# Altium footprint library MergenElektronik_Modules_LoRas.PcbLib: 1 footprints
Each footprint in its own frame and in the unit in brackets; x right, y up, seen from the top. Pads: shape width x height; smd on the part's side, far side on the other; paste and mask are expansions set on the pad; w line width, h text height; cw(c..) or ccw(c..) is an arc to the next point about the centre after c.
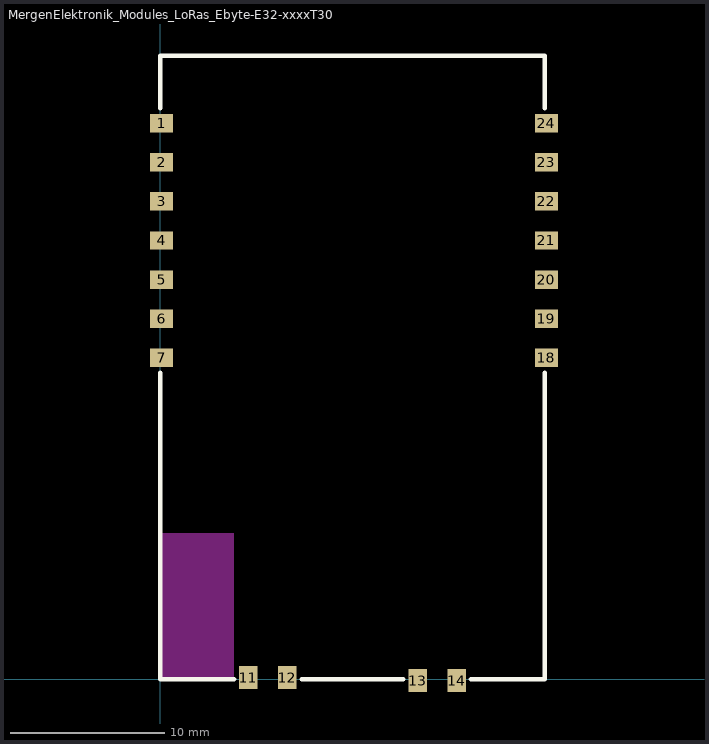
[diagram p0: the footprint, top view; thin cyan lines are the x and y axes]

## MergenElektronik_Modules_LoRas_Ebyte-E32-xxxxT30x [mm] "Ebyte-E32-xxxxT30x"
pads (18):
  rect 1.5x1.2 smd: 1(0.1,36.12) 2(0.1,33.58) 3(0.1,31.04) 4(0.1,28.5) 5(0.1,25.96) 6(0.1,23.42) 7(0.1,20.88) 18(25.1,20.88) 19(25.1,23.42) 20(25.1,25.96) 21(25.1,28.5) 22(25.1,31.04) 23(25.1,33.58) 24(25.1,36.12)
  rect 1.2x1.5 smd: 11(5.73,0.1) 12(8.27,0.1) 13(16.73,-0.1) 14(19.27,-0.1)
Top Overlay:
  lines w0.3: 0,19.9 0,0 4.8,0 ; 0,37.1 0,40.5 25,40.5 25,37.1 ; 9.2,0 15.8,0 ; 20.2,0 25,0 25,19.9
Keep-Out Layer:
  rectangle: 0,0 4.8,9.5
Mechanical 1:
  lines w0.1: 9.2,0 15.8,0
3D body "E22-400T30XX.stp": height 3, standoff 0.1, extent 0,0 25,40.5